# Altium integrated library Altium_WE-PPTI (rev24c) (1).IntLib: 69 symbols (part 1 of 2)
Pins are listed as number, name and electrical type; pins without a type are passive.

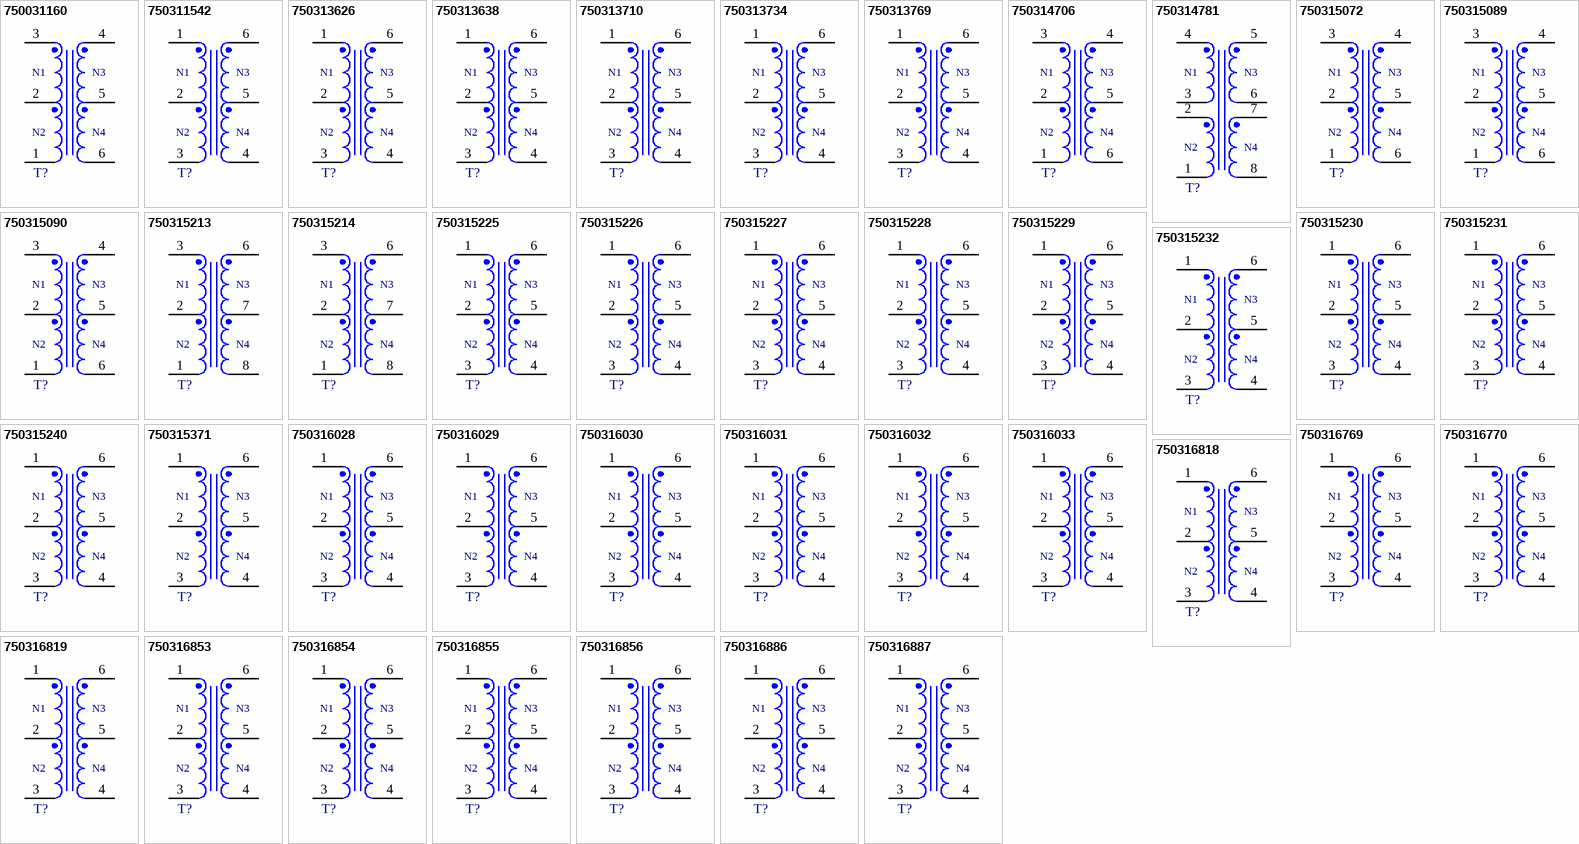
[diagram p0: symbols 750031160 to 750316887]

## 750031160
designator T?  (value not drawn)
WE-PPTI Push-Pull Transformer, SMT, size EE5, Ui = 5V, Uo = 12V / 0.35A; Manufacturer: Wurth Elektronik; Inductance: 500uH; Input Voltage: 5VDC; Insulation Test Voltage: 1000V (DC); Switching Frequency: 500kHz; Turns Ratio: 1:2.7; Voltage-Time: 9Vus; Manufacturer Part Number: 750031160; Category: Transformers For DC-DC Converter; Match Code: WE-PPTI; ComponentLink1Description: Website Link; ComponentLink1URL: https://www.we-online.com/redexpert/article/750031160?ad; ComponentLink2Description: Datasheet Link; ComponentLink2URL: https://www.we-online.com/redexpert/spec/750031160?ad; Mount: Surface Mount; Operating Temperature Max: 125°C; Operating Temperature Min: -40°C; Packaging: Tape and Reel; Case/Size Code: EE5; Length: 8.76mm; Width: 6.1mm; Height: 6.35mm; Output Current 1: 0.35A; Output Voltage 1: 12V
footprint WE-PPTI_EE5_L8.76W6.1H6.35
pins: 1, 2, 3, 4, 5, 6
text: N1; N3; N2; N4

## 750311542
designator T?  (value not drawn)
WE-PPTI Push-Pull Transformer, SMT, size EP5, Ui = 5V, Uo = 12V / 0.45A; Manufacturer: Wurth Elektronik; Inductance: 500uH; Input Voltage: 5VDC; Insulation Test Voltage: 1000V (DC); Switching Frequency: 500kHz; Turns Ratio: 1:2.73; Voltage-Time: 9Vus; Manufacturer Part Number: 750311542; Category: Transformers For DC-DC Converter; Match Code: WE-PPTI; ComponentLink1Description: Website Link; ComponentLink1URL: https://www.we-online.com/redexpert/article/750311542?ad; ComponentLink2Description: Datasheet Link; ComponentLink2URL: https://www.we-online.com/redexpert/spec/750311542?ad; Mount: Surface Mount; Operating Temperature Max: 125°C; Operating Temperature Min: -40°C; Packaging: Tape and Reel; Case/Size Code: EP5; Length: 8.26mm; Width: 6.6mm; Height: 5.59mm; Output Current 1: 0.45A; Output Voltage 1: 12V
footprint WE-PPTI_EP5_L8.26W6.6H5.59
pins: 1, 2, 3, 4, 5, 6
text: N1; N3; N2; N4

## 750313626
designator T?  (value not drawn)
WE-PPTI Push-Pull Transformer, SMT, size 1209, Ui = 3.3V, Uo = 5V / 0.5A; Manufacturer: Wurth Elektronik; Case/Size Code: 1209; Inductance: 340uH; Input Voltage: 3.3VDC; Insulation Test Voltage: 5000V (RMS); Switching Frequency: 250 - 550kHz; Turns Ratio: 1:2; Type of Insulation: Reinforced; Voltage-Time: 10Vus; Manufacturer Part Number: 750313626; Category: Transformers For DC-DC Converter; Match Code: WE-PPTI; ComponentLink1Description: Website Link; ComponentLink1URL: https://www.we-online.com/redexpert/article/750313626?ad; ComponentLink2Description: Datasheet Link; ComponentLink2URL: https://www.we-online.com/redexpert/spec/750313626?ad; Mount: Surface Mount; Operating Temperature Max: 125°C; Operating Temperature Min: -40°C; Packaging: Tape and Reel; Length: 12.7mm; Width: 9.14mm; Height: 7.62mm; Output Current 1: 0.5A; Output Voltage 1: 5V
footprint WE-PPTI_1209_L12.7W9.14H7.62
pins: 1, 2, 3, 4, 5, 6
text: N1; N3; N2; N4

## 750313638
designator T?  (value not drawn)
WE-PPTI Push-Pull Transformer, SMT, size 1209, Ui = 5V, Uo = 5V / 0.65A; Manufacturer: Wurth Elektronik; Case/Size Code: 1209; Inductance: 340uH; Input Voltage: 5VDC; Insulation Test Voltage: 5000V (RMS); Switching Frequency: 300 - 620kHz; Turns Ratio: 1:1.3; Type of Insulation: Reinforced; Voltage-Time: 10Vus; Manufacturer Part Number: 750313638; Category: Transformers For DC-DC Converter; Match Code: WE-PPTI; ComponentLink1Description: Website Link; ComponentLink1URL: https://www.we-online.com/redexpert/article/750313638?ad; ComponentLink2Description: Datasheet Link; ComponentLink2URL: https://www.we-online.com/redexpert/spec/750313638?ad; Mount: Surface Mount; Operating Temperature Max: 125°C; Operating Temperature Min: -40°C; Packaging: Tape and Reel; Length: 12.7mm; Width: 9.14mm; Height: 7.62mm; Output Current 1: 0.65A; Output Voltage 1: 5V
footprint WE-PPTI_1209_L12.7W9.14H7.62
pins: 1, 2, 3, 4, 5, 6
text: N1; N3; N2; N4

## 750313710
designator T?  (value not drawn)
WE-PPTI Push-Pull Transformer, SMT, size 1006, Ui = 5V, Uo = 3.3V / 0.65A; Manufacturer: Wurth Elektronik; Case/Size Code: 1006; Inductance: 475uH; Input Voltage: 5VDC; Insulation Test Voltage: 2500V (AC); Switching Frequency: 250 - 620kHz; Turns Ratio: 1:1.23; Type of Insulation: Functional; Voltage-Time: 11Vus; Manufacturer Part Number: 750313710; Category: Transformers For DC-DC Converter; Match Code: WE-PPTI; ComponentLink1Description: Website Link; ComponentLink1URL: https://www.we-online.com/redexpert/article/750313710?ad; ComponentLink2Description: Datasheet Link; ComponentLink2URL: https://www.we-online.com/redexpert/spec/750313710?ad; Mount: Surface Mount; Operating Temperature Max: 125°C; Operating Temperature Min: -40°C; Packaging: Tape and Reel; Length: 10.2mm; Width: 6.73mm; Height: 4.19mm; Output Current 1: 0.65A; Output Voltage 1: 3.3V
footprint WE-PPTI_1006_L10.2W6.73H4.19
pins: 1, 2, 3, 4, 5, 6
text: N1; N3; N2; N4

## 750313734
designator T?  (value not drawn)
WE-PPTI Push-Pull Transformer, SMT, size 1209, Ui = 5V, Uo = 5V / 0.8A; Manufacturer: Wurth Elektronik; Case/Size Code: 1209; Inductance: 340uH; Input Voltage: 5VDC; Insulation Test Voltage: 5000V (RMS); Switching Frequency: 300 - 620kHz; Turns Ratio: 1:1.1; Type of Insulation: Reinforced; Voltage-Time: 10Vus; Manufacturer Part Number: 750313734; Category: Transformers For DC-DC Converter; Match Code: WE-PPTI; ComponentLink1Description: Website Link; ComponentLink1URL: https://www.we-online.com/redexpert/article/750313734?ad; ComponentLink2Description: Datasheet Link; ComponentLink2URL: https://www.we-online.com/redexpert/spec/750313734?ad; Mount: Surface Mount; Operating Temperature Max: 125°C; Operating Temperature Min: -40°C; Packaging: Tape and Reel; Length: 12.7mm; Width: 9.14mm; Height: 7.62mm; Output Current 1: 0.8A; Output Voltage 1: 5V
footprint WE-PPTI_1209_L12.7W9.14H7.62
pins: 1, 2, 3, 4, 5, 6
text: N1; N3; N2; N4

## 750313769
designator T?  (value not drawn)
WE-PPTI Push-Pull Transformer, SMT, size 1209, Ui = 3.3V, Uo = 5V / 0.6A; Manufacturer: Wurth Elektronik; Case/Size Code: 1209; Inductance: 340uH; Input Voltage: 3.3VDC; Insulation Test Voltage: 5000V (RMS); Switching Frequency: 250 - 550kHz; Turns Ratio: 1:1.7; Type of Insulation: Reinforced; Voltage-Time: 10Vus; Manufacturer Part Number: 750313769; Category: Transformers For DC-DC Converter; Match Code: WE-PPTI; ComponentLink1Description: Website Link; ComponentLink1URL: https://www.we-online.com/redexpert/article/750313769?ad; ComponentLink2Description: Datasheet Link; ComponentLink2URL: https://www.we-online.com/redexpert/spec/750313769?ad; Mount: Surface Mount; Operating Temperature Max: 125°C; Operating Temperature Min: -40°C; Packaging: Tape and Reel; Length: 12.7mm; Width: 9.14mm; Height: 7.62mm; Output Current 1: 0.6A; Output Voltage 1: 5V
footprint WE-PPTI_1209_L12.7W9.14H7.62
pins: 1, 2, 3, 4, 5, 6
text: N1; N3; N2; N4

## 750314706
designator T?  (value not drawn)
WE-PPTI Push-Pull Transformer, SMT, size EP5, Ui = 3 - 5.5V, Uo = 5.4 - 9.9V / 0.3A; Manufacturer: Wurth Elektronik; Inductance: 250uH; Input Voltage: 3 - 5.5VDC; Insulation Test Voltage: 2500V (AC); Switching Frequency: 100 - 500kHz; Turns Ratio: 1:1.8; Voltage-Time: 27Vus; Manufacturer Part Number: 750314706; Category: Transformers For DC-DC Converter; Match Code: WE-PPTI; ComponentLink1Description: Website Link; ComponentLink1URL: https://www.we-online.com/redexpert/article/750314706?ad; ComponentLink2Description: Datasheet Link; ComponentLink2URL: https://www.we-online.com/redexpert/spec/750314706?ad; Mount: Surface Mount; Operating Temperature Max: 125°C; Operating Temperature Min: -40°C; Packaging: Tape and Reel; Case/Size Code: EP5; Length: 9.1mm; Width: 7mm; Height: 7.8mm; Output Current 1: 0.3A; Output Voltage 1: 5.4 - 9.9V
footprint WE-PPTI_EP5_L9.1W7H7.8
pins: 1, 2, 3, 4, 5, 6
text: N1; N3; N2; N4

## 750314781
designator T?  (value not drawn)
WE-PPTI Push-Pull Transformer, SMT, size EP7, Ui = 10 - 15V, Uo1 = 12V / 0.5A, Uo2 = 12V / 0.5A; Manufacturer: Wurth Elektronik; Inductance: 160uH; Input Voltage: 10 - 15VDC; Insulation Test Voltage: 1000V (AC); Switching Frequency: 1000kHz; Turns Ratio: 1:2; Voltage-Time: 68Vus; Manufacturer Part Number: 750314781; Category: Transformers For DC-DC Converter; Match Code: WE-PPTI; ComponentLink1Description: Website Link; ComponentLink1URL: https://www.we-online.com/redexpert/article/750314781?ad; ComponentLink2Description: Datasheet Link; ComponentLink2URL: https://www.we-online.com/redexpert/spec/750314781?ad; Mount: Surface Mount; Operating Temperature Max: 125°C; Operating Temperature Min: -40°C; Packaging: Tape and Reel; Case/Size Code: EP7; Length: 9.14mm; Width: 9.78mm; Height: 10.54mm; Output Current 1: 0.5A; Output Current 2: 0.5A; Output Voltage 1: 12V; Output Voltage 2: 12V
footprint WE-PPTI_EP7_L9.14W9.78H10.54
pins: 1, 2, 3, 4, 5, 6, 7, 8
text: N1; N3; N2; N4

## 750315072
designator T?  (value not drawn)
WE-PPTI Push-Pull Transformer, SMT, size EP5, Ui = 3 - 5.5V, Uo = 2 - 3.6V / 0.6A; Manufacturer: Wurth Elektronik; Inductance: 635uH; Input Voltage: 3 - 5.5VDC; Insulation Test Voltage: 2500V (AC); Output Voltage 1: 2 - 3.6V; Switching Frequency: 100 - 500kHz; Turns Ratio: 1.53:1; Voltage-Time: 42Vus; Manufacturer Part Number: 750315072; Category: Transformers For DC-DC Converter; Match Code: WE-PPTI; ComponentLink1Description: Website Link; ComponentLink1URL: https://www.we-online.com/redexpert/article/750315072?ad; ComponentLink2Description: Datasheet Link; ComponentLink2URL: https://www.we-online.com/redexpert/spec/750315072?ad; Mount: Surface Mount; Operating Temperature Max: 125°C; Operating Temperature Min: -40°C; Packaging: Tape and Reel; Case/Size Code: EP5; Length: 9.1mm; Width: 7mm; Height: 7.8mm; Output Current 1: 0.6A
footprint WE-PPTI_EP5_L9.1W7H7.8
pins: 1, 2, 3, 4, 5, 6
text: N1; N3; N2; N4

## 750315089
designator T?  (value not drawn)
WE-PPTI Push-Pull Transformer, SMT, size EP5, Ui = 3 - 5.5V, Uo = 3 - 5.5V / 0.33A; Manufacturer: Wurth Elektronik; Inductance: 635uH; Input Voltage: 3 - 5.5VDC; Insulation Test Voltage: 2500V (AC); Output Voltage 1: 3 - 5.5V; Switching Frequency: 100 - 500kHz; Turns Ratio: 1:1; Voltage-Time: 42Vus; Manufacturer Part Number: 750315089; Category: Transformers For DC-DC Converter; Match Code: WE-PPTI; ComponentLink1Description: Website Link; ComponentLink1URL: https://www.we-online.com/redexpert/article/750315089?ad; ComponentLink2Description: Datasheet Link; ComponentLink2URL: https://www.we-online.com/redexpert/spec/750315089?ad; Mount: Surface Mount; Operating Temperature Max: 125°C; Operating Temperature Min: -40°C; Packaging: Tape and Reel; Case/Size Code: EP5; Length: 9.1mm; Width: 7mm; Height: 7.8mm; Output Current 1: 0.33A
footprint WE-PPTI_EP5_L9.1W7H7.8
pins: 1, 2, 3, 4, 5, 6
text: N1; N3; N2; N4

## 750315090
designator T?  (value not drawn)
WE-PPTI Push-Pull Transformer, SMT, size EP5, Ui = 3 - 5.5V, Uo = 3 - 5.5V / 0.6A; Manufacturer: Wurth Elektronik; Inductance: 270uH; Input Voltage: 3 - 5.5VDC; Insulation Test Voltage: 2500V (AC); Output Voltage 1: 3 - 5.5V; Switching Frequency: 100 - 500kHz; Turns Ratio: 1:1; Voltage-Time: 27Vus; Manufacturer Part Number: 750315090; Category: Transformers For DC-DC Converter; Match Code: WE-PPTI; ComponentLink1Description: Website Link; ComponentLink1URL: https://www.we-online.com/redexpert/article/750315090?ad; ComponentLink2Description: Datasheet Link; ComponentLink2URL: https://www.we-online.com/redexpert/spec/750315090?ad; Mount: Surface Mount; Operating Temperature Max: 125°C; Operating Temperature Min: -40°C; Packaging: Tape and Reel; Case/Size Code: EP5; Length: 9.1mm; Width: 7mm; Height: 7.8mm; Output Current 1: 0.6A
footprint WE-PPTI_EP5_L9.1W7H7.8
pins: 1, 2, 3, 4, 5, 6
text: N1; N3; N2; N4

## 750315213
designator T?  (value not drawn)
WE-PPTI Push-Pull Transformer, SMT, size EP7, Ui = 8 - 36V, Uo = 8 - 36V / 0.6A; Manufacturer: Wurth Elektronik; Inductance: 563uH; Input Voltage: 8 - 36VDC; Insulation Test Voltage: 3125 (AC); Output Voltage 1: 8 - 36V; Switching Frequency: 150 - 500kHz; Turns Ratio: 1:1; Voltage-Time: 100Vus; Manufacturer Part Number: 750315213; Category: Transformers For DC-DC Converter; Match Code: WE-PPTI; ComponentLink1Description: Website Link; ComponentLink1URL: https://www.we-online.com/redexpert/article/750315213?ad; ComponentLink2Description: Datasheet Link; ComponentLink2URL: https://www.we-online.com/redexpert/spec/750315213?ad; Mount: Surface Mount; Operating Temperature Max: 125°C; Operating Temperature Min: -40°C; Packaging: Tape and Reel; Case/Size Code: EP7; Length: 9.14mm; Width: 9.78mm; Height: 10.54mm; Output Current 1: 0.6A
footprint WE-PPTI_EP7_L9.14W9.78H10.54
pins: 1, 2, 3, 6, 7, 8
text: N1; N3; N2; N4

## 750315214
designator T?  (value not drawn)
WE-PPTI Push-Pull Transformer, SMT, size EP7, Ui = 8 - 36V, Uo = 2 - 9V / 2A; Manufacturer: Wurth Elektronik; Inductance: 563uH; Input Voltage: 8 - 36VDC; Insulation Test Voltage: 3125 (AC); Output Voltage 1: 2 - 9V; Switching Frequency: 150 - 500kHz; Turns Ratio: 4:1; Voltage-Time: 100Vus; Manufacturer Part Number: 750315214; Category: Transformers For DC-DC Converter; Match Code: WE-PPTI; ComponentLink1Description: Website Link; ComponentLink1URL: https://www.we-online.com/redexpert/article/750315214?ad; ComponentLink2Description: Datasheet Link; ComponentLink2URL: https://www.we-online.com/redexpert/spec/750315214?ad; Mount: Surface Mount; Operating Temperature Max: 125°C; Operating Temperature Min: -40°C; Packaging: Tape and Reel; Case/Size Code: EP7; Length: 9.14mm; Width: 9.78mm; Height: 10.54mm; Output Current 1: 2A
footprint WE-PPTI_EP7_L9.14W9.78H10.54
pins: 1, 2, 3, 6, 7, 8
text: N1; N3; N2; N4

## 750315225
designator T?  (value not drawn)
WE-PPTI Push-Pull Transformer, SMT, size 1006, Ui = 3.3V, Uo = 3.63V / 0.9A; Manufacturer: Wurth Elektronik; Case/Size Code: 1006; Inductance: 388uH; Input Voltage: 3.3VDC; Insulation Test Voltage: 2750V (AC); Switching Frequency: 350 - 550kHz; Turns Ratio: 1:1.1; Voltage-Time: 8.5Vus; Manufacturer Part Number: 750315225; Category: Transformers For DC-DC Converter; Match Code: WE-PPTI; ComponentLink1Description: Website Link; ComponentLink1URL: https://www.we-online.com/redexpert/article/750315225?ad; ComponentLink2Description: Datasheet Link; ComponentLink2URL: https://www.we-online.com/redexpert/spec/750315225?ad; Mount: Surface Mount; Operating Temperature Max: 125°C; Operating Temperature Min: -40°C; Packaging: Tape and Reel; Length: 10.2mm; Width: 6.73mm; Height: 4.19mm; Output Current 1: 0.9A; Output Voltage 1: 3.63V
footprint WE-PPTI_1006_L10.2W6.73H4.19
pins: 1, 2, 3, 4, 5, 6
text: N1; N3; N2; N4

## 750315226
designator T?  (value not drawn)
WE-PPTI Push-Pull Transformer, SMT, size 1006, Ui = 3.3V, Uo = 4.29V / 0.85A; Manufacturer: Wurth Elektronik; Case/Size Code: 1006; Inductance: 388uH; Input Voltage: 3.3VDC; Insulation Test Voltage: 2750V (AC); Switching Frequency: 350 - 550kHz; Turns Ratio: 1:1.3; Voltage-Time: 8.5Vus; Manufacturer Part Number: 750315226; Category: Transformers For DC-DC Converter; Match Code: WE-PPTI; ComponentLink1Description: Website Link; ComponentLink1URL: https://www.we-online.com/redexpert/article/750315226?ad; ComponentLink2Description: Datasheet Link; ComponentLink2URL: https://www.we-online.com/redexpert/spec/750315226?ad; Mount: Surface Mount; Operating Temperature Max: 125°C; Operating Temperature Min: -40°C; Packaging: Tape and Reel; Length: 10.2mm; Width: 6.73mm; Height: 4.19mm; Output Current 1: 0.85A; Output Voltage 1: 4.29V
footprint WE-PPTI_1006_L10.2W6.73H4.19
pins: 1, 2, 3, 4, 5, 6
text: N1; N3; N2; N4

## 750315227
designator T?  (value not drawn)
WE-PPTI Push-Pull Transformer, SMT, size 1006, Ui = 3.3V, Uo = 5.61V / 0.7A; Manufacturer: Wurth Elektronik; Case/Size Code: 1006; Inductance: 388uH; Input Voltage: 3.3VDC; Insulation Test Voltage: 2750V (AC); Switching Frequency: 350 - 550kHz; Turns Ratio: 1:1.7; Voltage-Time: 8.5Vus; Manufacturer Part Number: 750315227; Category: Transformers For DC-DC Converter; Match Code: WE-PPTI; ComponentLink1Description: Website Link; ComponentLink1URL: https://www.we-online.com/redexpert/article/750315227?ad; ComponentLink2Description: Datasheet Link; ComponentLink2URL: https://www.we-online.com/redexpert/spec/750315227?ad; Mount: Surface Mount; Operating Temperature Max: 125°C; Operating Temperature Min: -40°C; Packaging: Tape and Reel; Length: 10.2mm; Width: 6.73mm; Height: 4.19mm; Output Current 1: 0.7A; Output Voltage 1: 5.61V
footprint WE-PPTI_1006_L10.2W6.73H4.19
pins: 1, 2, 3, 4, 5, 6
text: N1; N3; N2; N4

## 750315228
designator T?  (value not drawn)
WE-PPTI Push-Pull Transformer, SMT, size 1006, Ui = 3.3V, Uo = 6.6V / 0.5A; Manufacturer: Wurth Elektronik; Case/Size Code: 1006; Inductance: 388uH; Input Voltage: 3.3VDC; Insulation Test Voltage: 2750V (AC); Switching Frequency: 350 - 550kHz; Turns Ratio: 1:2; Voltage-Time: 8.5Vus; Manufacturer Part Number: 750315228; Category: Transformers For DC-DC Converter; Match Code: WE-PPTI; ComponentLink1Description: Website Link; ComponentLink1URL: https://www.we-online.com/redexpert/article/750315228?ad; ComponentLink2Description: Datasheet Link; ComponentLink2URL: https://www.we-online.com/redexpert/spec/750315228?ad; Mount: Surface Mount; Operating Temperature Max: 125°C; Operating Temperature Min: -40°C; Packaging: Tape and Reel; Length: 10.2mm; Width: 6.73mm; Height: 4.19mm; Output Current 1: 0.5A; Output Voltage 1: 6.6V
footprint WE-PPTI_1006_L10.2W6.73H4.19
pins: 1, 2, 3, 4, 5, 6
text: N1; N3; N2; N4

## 750315229
designator T?  (value not drawn)
WE-PPTI Push-Pull Transformer, SMT, size 1209, Ui = 5V, Uo = 5V / 0.9A; Manufacturer: Wurth Elektronik; Case/Size Code: 1209; Inductance: 384uH; Input Voltage: 5VDC; Insulation Test Voltage: 5000V (RMS); Switching Frequency: 350 - 550kHz; Turns Ratio: 1:1.1; Voltage-Time: 8.8Vus; Manufacturer Part Number: 750315229; Category: Transformers For DC-DC Converter; Match Code: WE-PPTI; ComponentLink1Description: Website Link; ComponentLink1URL: https://www.we-online.com/redexpert/article/750315229?ad; ComponentLink2Description: Datasheet Link; ComponentLink2URL: https://www.we-online.com/redexpert/spec/750315229?ad; Mount: Surface Mount; Operating Temperature Max: 125°C; Operating Temperature Min: -40°C; Packaging: Tape and Reel; Length: 12.7mm; Width: 9.14mm; Height: 7.62mm; Output Current 1: 0.9A; Output Voltage 1: 5V
footprint WE-PPTI_1209_L12.7W9.14H7.62
pins: 1, 2, 3, 4, 5, 6
text: N1; N3; N2; N4

## 750315230
designator T?  (value not drawn)
WE-PPTI Push-Pull Transformer, SMT, size 1209, Ui = 5V, Uo = 5V / 0.75A; Manufacturer: Wurth Elektronik; Case/Size Code: 1209; Inductance: 384uH; Input Voltage: 5VDC; Insulation Test Voltage: 5000V (RMS); Switching Frequency: 350 - 550kHz; Turns Ratio: 1:1.4; Voltage-Time: 8.8Vus; Manufacturer Part Number: 750315230; Category: Transformers For DC-DC Converter; Match Code: WE-PPTI; ComponentLink1Description: Website Link; ComponentLink1URL: https://www.we-online.com/redexpert/article/750315230?ad; ComponentLink2Description: Datasheet Link; ComponentLink2URL: https://www.we-online.com/redexpert/spec/750315230?ad; Mount: Surface Mount; Operating Temperature Max: 125°C; Operating Temperature Min: -40°C; Packaging: Tape and Reel; Length: 12.7mm; Width: 9.14mm; Height: 7.62mm; Output Current 1: 0.75A; Output Voltage 1: 5V
footprint WE-PPTI_1209_L12.7W9.14H7.62
pins: 1, 2, 3, 4, 5, 6
text: N1; N3; N2; N4

## 750315231
designator T?  (value not drawn)
WE-PPTI Push-Pull Transformer, SMT, size 1209, Ui = 3.3V, Uo = 5V / 0.55A; Manufacturer: Wurth Elektronik; Case/Size Code: 1209; Inductance: 384uH; Input Voltage: 3.3VDC; Insulation Test Voltage: 5000V (RMS); Switching Frequency: 350 - 550kHz; Turns Ratio: 1:1.6; Voltage-Time: 8.8Vus; Manufacturer Part Number: 750315231; Category: Transformers For DC-DC Converter; Match Code: WE-PPTI; ComponentLink1Description: Website Link; ComponentLink1URL: https://www.we-online.com/redexpert/article/750315231?ad; ComponentLink2Description: Datasheet Link; ComponentLink2URL: https://www.we-online.com/redexpert/spec/750315231?ad; Mount: Surface Mount; Operating Temperature Max: 125°C; Operating Temperature Min: -40°C; Packaging: Tape and Reel; Length: 12.7mm; Width: 9.14mm; Height: 7.62mm; Output Current 1: 0.55A; Output Voltage 1: 5V
footprint WE-PPTI_1209_L12.7W9.14H7.62
pins: 1, 2, 3, 4, 5, 6
text: N1; N3; N2; N4

## 750315232
designator T?  (value not drawn)
WE-PPTI Push-Pull Transformer, SMT, size 1209, Ui = 3.3V, Uo = 5V / 0.45A; Manufacturer: Wurth Elektronik; Case/Size Code: 1209; Inductance: 384uH; Input Voltage: 3.3VDC; Insulation Test Voltage: 5000V (RMS); Switching Frequency: 350 - 550kHz; Turns Ratio: 1:2; Voltage-Time: 8.8Vus; Manufacturer Part Number: 750315232; Category: Transformers For DC-DC Converter; Match Code: WE-PPTI; ComponentLink1Description: Website Link; ComponentLink1URL: https://www.we-online.com/redexpert/article/750315232?ad; ComponentLink2Description: Datasheet Link; ComponentLink2URL: https://www.we-online.com/redexpert/spec/750315232?ad; Mount: Surface Mount; Operating Temperature Max: 125°C; Operating Temperature Min: -40°C; Packaging: Tape and Reel; Length: 12.7mm; Width: 9.14mm; Height: 7.62mm; Output Current 1: 0.45A; Output Voltage 1: 5V
footprint WE-PPTI_1209_L12.7W9.14H7.62
pins: 1, 2, 3, 4, 5, 6
text: N1; N3; N2; N4

## 750315240
designator T?  (value not drawn)
WE-PPTI Push-Pull Transformer, SMT, size 1512, Ui = 5V, Uo = 5V / 1A; Manufacturer: Wurth Elektronik; Case/Size Code: 1512; Inductance: 440uH; Input Voltage: 5VDC; Insulation Test Voltage: 5000V (RMS); Switching Frequency: 150kHz; Turns Ratio: 1:1.1; Type of Insulation: Reinforced; Voltage-Time: 46Vus; Manufacturer Part Number: 750315240; Category: Transformers For DC-DC Converter; Match Code: WE-PPTI; ComponentLink1Description: Website Link; ComponentLink1URL: https://www.we-online.com/redexpert/article/750315240?ad; ComponentLink2Description: Datasheet Link; ComponentLink2URL: https://www.we-online.com/redexpert/spec/750315240?ad; Mount: Surface Mount; Operating Temperature Max: 125°C; Operating Temperature Min: -40°C; Packaging: Tape and Reel; Length: 15.41mm; Width: 12.32mm; Height: 11.89mm; Output Current 1: 1A; Output Voltage 1: 5V
footprint WE-PPTI_1512_L15.41W12.32H11.89
pins: 1, 2, 3, 4, 5, 6
text: N1; N3; N2; N4

## 750315371
designator T?  (value not drawn)
WE-PPTI Push-Pull Transformer, SMT, size 1208, Ui = 4.5 - 5.5V, Uo = 5V / 1A; Manufacturer: Wurth Elektronik; Case/Size Code: 1208; Inductance: 72uH; Input Voltage: 4.5 - 5.5VDC; Insulation Test Voltage: 2500V (AC); Switching Frequency: 400kHz; Turns Ratio: 1:1.1; Type of Insulation: Functional; Voltage-Time: 8.6Vus; Manufacturer Part Number: 750315371; Category: Transformers For DC-DC Converter; Match Code: WE-PPTI; ComponentLink1Description: Website Link; ComponentLink1URL: https://www.we-online.com/redexpert/article/750315371?ad; ComponentLink2Description: Datasheet Link; ComponentLink2URL: https://www.we-online.com/redexpert/spec/750315371?ad; Mount: Surface Mount; Operating Temperature Max: 125°C; Operating Temperature Min: -40°C; Packaging: Tape and Reel; Length: 12.6mm; Width: 8.3mm; Height: 4.1mm; Output Current 1: 1A; Output Voltage 1: 5V
footprint WE-PPTI_1208_L12.6W8.3H4.1
pins: 1, 2, 3, 4, 5, 6
text: N1; N3; N2; N4

## 750316028
designator T?  (value not drawn)
WE-PPTI Push-Pull Transformer, SMT, size 1208, Ui = 3.3V, Uo = 3.3V / 0.8A; Manufacturer: Wurth Elektronik; Case/Size Code: 1208; Inductance: 72uH; Input Voltage: 3.3VDC; Insulation Test Voltage: 2500V (AC); Switching Frequency: 400kHz; Turns Ratio: 1:1.7; Type of Insulation: Functional; Voltage-Time: 8.9Vus; Manufacturer Part Number: 750316028; Category: Transformers For DC-DC Converter; Match Code: WE-PPTI; ComponentLink1Description: Website Link; ComponentLink1URL: https://www.we-online.com/redexpert/article/750316028?ad; ComponentLink2Description: Datasheet Link; ComponentLink2URL: https://www.we-online.com/redexpert/spec/750316028?ad; Mount: Surface Mount; Operating Temperature Max: 125°C; Operating Temperature Min: -40°C; Packaging: Tape and Reel; Length: 12.6mm; Width: 8.3mm; Height: 4.1mm; Output Current 1: 0.8A; Output Voltage 1: 3.3V
footprint WE-PPTI_1208_L12.6W8.3H4.1
pins: 1, 2, 3, 4, 5, 6
text: N1; N3; N2; N4

## 750316029
designator T?  (value not drawn)
WE-PPTI Push-Pull Transformer, SMT, size 1208, Ui = 3.3V, Uo = 5V / 0.6A; Manufacturer: Wurth Elektronik; Case/Size Code: 1208; Inductance: 72uH; Input Voltage: 3.3VDC; Insulation Test Voltage: 2500V (AC); Switching Frequency: 400kHz; Turns Ratio: 1:2.1; Type of Insulation: Functional; Voltage-Time: 8.9Vus; Manufacturer Part Number: 750316029; Category: Transformers For DC-DC Converter; Match Code: WE-PPTI; ComponentLink1Description: Website Link; ComponentLink1URL: https://www.we-online.com/redexpert/article/750316029?ad; ComponentLink2Description: Datasheet Link; ComponentLink2URL: https://www.we-online.com/redexpert/spec/750316029?ad; Mount: Surface Mount; Operating Temperature Max: 125°C; Operating Temperature Min: -40°C; Packaging: Tape and Reel; Length: 12.6mm; Width: 8.3mm; Height: 4.1mm; Output Current 1: 0.6A; Output Voltage 1: 5V
footprint WE-PPTI_1208_L12.6W8.3H4.1
pins: 1, 2, 3, 4, 5, 6
text: N1; N3; N2; N4

## 750316030
designator T?  (value not drawn)
WE-PPTI Push-Pull Transformer, SMT, size 1208, Ui = 4.5 - 5.5V, Uo = 3.3V / 1.2A; Manufacturer: Wurth Elektronik; Case/Size Code: 1208; Inductance: 94uH; Input Voltage: 4.5 - 5.5VDC; Insulation Test Voltage: 2500V (AC); Switching Frequency: 400kHz; Turns Ratio: 1.3:1; Type of Insulation: Functional; Voltage-Time: 10.2Vus; Manufacturer Part Number: 750316030; Category: Transformers For DC-DC Converter; Match Code: WE-PPTI; ComponentLink1Description: Website Link; ComponentLink1URL: https://www.we-online.com/redexpert/article/750316030?ad; ComponentLink2Description: Datasheet Link; ComponentLink2URL: https://www.we-online.com/redexpert/spec/750316030?ad; Mount: Surface Mount; Operating Temperature Max: 125°C; Operating Temperature Min: -40°C; Packaging: Tape and Reel; Length: 12.6mm; Width: 8.3mm; Height: 4.1mm; Output Current 1: 1.2A; Output Voltage 1: 3.3V
footprint WE-PPTI_1208_L12.6W8.3H4.1
pins: 1, 2, 3, 4, 5, 6
text: N1; N3; N2; N4

## 750316031
designator T?  (value not drawn)
WE-PPTI Push-Pull Transformer, SMT, size 1512, Ui = 3.3V, Uo = 3.3V / 0.9A; Manufacturer: Wurth Elektronik; Case/Size Code: 1512; Inductance: 370uH; Input Voltage: 3.3VDC; Insulation Test Voltage: 5000V (RMS); Switching Frequency: 150kHz; Turns Ratio: 1:1.75; Type of Insulation: Reinforced; Voltage-Time: 40Vus; Manufacturer Part Number: 750316031; Category: Transformers For DC-DC Converter; Match Code: WE-PPTI; ComponentLink1Description: Website Link; ComponentLink1URL: https://www.we-online.com/redexpert/article/750316031?ad; ComponentLink2Description: Datasheet Link; ComponentLink2URL: https://www.we-online.com/redexpert/spec/750316031?ad; Mount: Surface Mount; Operating Temperature Max: 125°C; Operating Temperature Min: -40°C; Packaging: Tape and Reel; Length: 15.41mm; Width: 12.32mm; Height: 11.89mm; Output Current 1: 0.9A; Output Voltage 1: 3.3V
footprint WE-PPTI_1512_L15.41W12.32H11.89
pins: 1, 2, 3, 4, 5, 6
text: N1; N3; N2; N4

## 750316032
designator T?  (value not drawn)
WE-PPTI Push-Pull Transformer, SMT, size 1512, Ui = 3.3V, Uo = 5V / 0.9A; Manufacturer: Wurth Elektronik; Case/Size Code: 1512; Inductance: 370uH; Input Voltage: 3.3VDC; Insulation Test Voltage: 5000V (RMS); Switching Frequency: 150kHz; Turns Ratio: 1:2; Type of Insulation: Reinforced; Voltage-Time: 40Vus; Manufacturer Part Number: 750316032; Category: Transformers For DC-DC Converter; Match Code: WE-PPTI; ComponentLink1Description: Website Link; ComponentLink1URL: https://www.we-online.com/redexpert/article/750316032?ad; ComponentLink2Description: Datasheet Link; ComponentLink2URL: https://www.we-online.com/redexpert/spec/750316032?ad; Mount: Surface Mount; Operating Temperature Max: 125°C; Operating Temperature Min: -40°C; Packaging: Tape and Reel; Length: 15.41mm; Width: 12.32mm; Height: 11.89mm; Output Current 1: 0.9A; Output Voltage 1: 5V
footprint WE-PPTI_1512_L15.41W12.32H11.89
pins: 1, 2, 3, 4, 5, 6
text: N1; N3; N2; N4

## 750316033
designator T?  (value not drawn)
WE-PPTI Push-Pull Transformer, SMT, size 1512, Ui = 4.5 - 5.5V, Uo = 3.3V / 1A; Manufacturer: Wurth Elektronik; Case/Size Code: 1512; Inductance: 370uH; Input Voltage: 4.5 - 5.5VDC; Insulation Test Voltage: 5000V (RMS); Switching Frequency: 150kHz; Turns Ratio: 1.3:1; Type of Insulation: Reinforced; Voltage-Time: 40Vus; Manufacturer Part Number: 750316033; Category: Transformers For DC-DC Converter; Match Code: WE-PPTI; ComponentLink1Description: Website Link; ComponentLink1URL: https://www.we-online.com/redexpert/article/750316033?ad; ComponentLink2Description: Datasheet Link; ComponentLink2URL: https://www.we-online.com/redexpert/spec/750316033?ad; Mount: Surface Mount; Operating Temperature Max: 125°C; Operating Temperature Min: -40°C; Packaging: Tape and Reel; Length: 15.41mm; Width: 12.32mm; Height: 11.89mm; Output Current 1: 1A; Output Voltage 1: 3.3V
footprint WE-PPTI_1512_L15.41W12.32H11.89
pins: 1, 2, 3, 4, 5, 6
text: N1; N3; N2; N4

## 750316769
designator T?  (value not drawn)
WE-PPTI Push-Pull Transformer, SMT, size 1006, Ui = 5V, Uo = 15V / 0.25A; Manufacturer: Wurth Elektronik; Case/Size Code: 1006; Inductance: 350uH; Input Voltage: 5VDC; Insulation Test Voltage: 2500V (AC); Switching Frequency: 300 - 620kHz; Turns Ratio: 1:3.45; Type of Insulation: Functional; Voltage-Time: 9Vus; Manufacturer Part Number: 750316769; Category: Transformers For DC-DC Converter; Match Code: WE-PPTI; ComponentLink1Description: Website Link; ComponentLink1URL: https://www.we-online.com/redexpert/article/750316769?ad; ComponentLink2Description: Datasheet Link; ComponentLink2URL: https://www.we-online.com/redexpert/spec/750316769?ad; Mount: Surface Mount; Operating Temperature Max: 125°C; Operating Temperature Min: -40°C; Packaging: Tape and Reel; Length: 10.2mm; Width: 6.73mm; Height: 4.19mm; Output Current 1: 0.25A; Output Voltage 1: 15V
footprint WE-PPTI_1006_L10.2W6.73H4.19
pins: 1, 2, 3, 4, 5, 6
text: N1; N3; N2; N4

## 750316770
designator T?  (value not drawn)
WE-PPTI Push-Pull Transformer, SMT, size 1006, Ui = 5V, Uo = 12V / 0.28A; Manufacturer: Wurth Elektronik; Case/Size Code: 1006; Inductance: 350uH; Input Voltage: 5VDC; Insulation Test Voltage: 2500V (AC); Switching Frequency: 300 - 620kHz; Turns Ratio: 1:2.91; Type of Insulation: Functional; Voltage-Time: 9Vus; Manufacturer Part Number: 750316770; Category: Transformers For DC-DC Converter; Match Code: WE-PPTI; ComponentLink1Description: Website Link; ComponentLink1URL: https://www.we-online.com/redexpert/article/750316770?ad; ComponentLink2Description: Datasheet Link; ComponentLink2URL: https://www.we-online.com/redexpert/spec/750316770?ad; Mount: Surface Mount; Operating Temperature Max: 125°C; Operating Temperature Min: -40°C; Packaging: Tape and Reel; Length: 10.2mm; Width: 6.73mm; Height: 4.19mm; Output Current 1: 0.28A; Output Voltage 1: 12V
footprint WE-PPTI_1006_L10.2W6.73H4.19
pins: 1, 2, 3, 4, 5, 6
text: N1; N3; N2; N4

## 750316818
designator T?  (value not drawn)
WE-PPTI Push-Pull Transformer, SMT, size 1208, Ui = 5V, Uo = 17V / 0.38A; Manufacturer: Wurth Elektronik; Case/Size Code: 1208; Inductance: 86uH; Input Voltage: 5VDC; Insulation Test Voltage: 2500V (AC); Switching Frequency: 400kHz; Turns Ratio: 1:3.5; Type of Insulation: Functional; Voltage-Time: 9Vus; Manufacturer Part Number: 750316818; Category: Transformers For DC-DC Converter; Match Code: WE-PPTI; ComponentLink1Description: Website Link; ComponentLink1URL: https://www.we-online.com/redexpert/article/750316818?ad; ComponentLink2Description: Datasheet Link; ComponentLink2URL: https://www.we-online.com/redexpert/spec/750316818?ad; Mount: Surface Mount; Operating Temperature Max: 125°C; Operating Temperature Min: -40°C; Packaging: Tape and Reel; Length: 12.6mm; Width: 8.3mm; Height: 4.1mm; Output Current 1: 0.38A; Output Voltage 1: 17V
footprint WE-PPTI_1208_L12.6W8.3H4.1
pins: 1, 2, 3, 4, 5, 6
text: N1; N3; N2; N4

## 750316819
designator T?  (value not drawn)
WE-PPTI Push-Pull Transformer, SMT, size 1208, Ui = 5V, Uo = 12V / 0.46A; Manufacturer: Wurth Elektronik; Case/Size Code: 1208; Inductance: 86uH; Input Voltage: 5VDC; Insulation Test Voltage: 2500V (AC); Switching Frequency: 400kHz; Turns Ratio: 1:2.88; Type of Insulation: Functional; Voltage-Time: 9Vus; Manufacturer Part Number: 750316819; Category: Transformers For DC-DC Converter; Match Code: WE-PPTI; ComponentLink1Description: Website Link; ComponentLink1URL: https://www.we-online.com/redexpert/article/750316819?ad; ComponentLink2Description: Datasheet Link; ComponentLink2URL: https://www.we-online.com/redexpert/spec/750316819?ad; Mount: Surface Mount; Operating Temperature Max: 125°C; Operating Temperature Min: -40°C; Packaging: Tape and Reel; Length: 12.6mm; Width: 8.3mm; Height: 4.1mm; Output Current 1: 0.46A; Output Voltage 1: 12V
footprint WE-PPTI_1208_L12.6W8.3H4.1
pins: 1, 2, 3, 4, 5, 6
text: N1; N3; N2; N4

## 750316853
designator T?  (value not drawn)
WE-PPTI Push-Pull Transformer, SMT, size 1408, Ui = 3.3V, Uo = 12V / 0.165A; Manufacturer: Wurth Elektronik; Case/Size Code: 1408; Inductance: 200uH; Input Voltage: 3.3VDC; Insulation Test Voltage: 2500V (AC); Switching Frequency: 200 - 600kHz; Turns Ratio: 1:4; Type of Insulation: Supplementary; Voltage-Time: 15Vus; Manufacturer Part Number: 750316853; Category: Transformers For DC-DC Converter; Match Code: WE-PPTI; ComponentLink1Description: Website Link; ComponentLink1URL: https://www.we-online.com/redexpert/article/750316853?ad; ComponentLink2Description: Datasheet Link; ComponentLink2URL: https://www.we-online.com/redexpert/spec/750316853?ad; Mount: Surface Mount; Operating Temperature Max: 125°C; Operating Temperature Min: -40°C; Packaging: Tape and Reel; Length: 14.75mm; Width: 8.3mm; Height: 4.2mm; Output Current 1: 0.165A; Output Voltage 1: 12V
footprint WE-PPTI_1408_L14.75W8.3H4.2
pins: 1, 2, 3, 4, 5, 6
text: N1; N3; N2; N4

## 750316854
designator T?  (value not drawn)
WE-PPTI Push-Pull Transformer, SMT, size 1408, Ui = 5V, Uo = 12V / 0.38A; Manufacturer: Wurth Elektronik; Case/Size Code: 1408; Inductance: 200uH; Input Voltage: 5VDC; Insulation Test Voltage: 2500V (AC); Switching Frequency: 200 - 600kHz; Turns Ratio: 1:2.5; Type of Insulation: Supplementary; Voltage-Time: 15Vus; Manufacturer Part Number: 750316854; Category: Transformers For DC-DC Converter; Match Code: WE-PPTI; ComponentLink1Description: Website Link; ComponentLink1URL: https://www.we-online.com/redexpert/article/750316854?ad; ComponentLink2Description: Datasheet Link; ComponentLink2URL: https://www.we-online.com/redexpert/spec/750316854?ad; Mount: Surface Mount; Operating Temperature Max: 125°C; Operating Temperature Min: -40°C; Packaging: Tape and Reel; Length: 14.75mm; Width: 8.3mm; Height: 4.2mm; Output Current 1: 0.38A; Output Voltage 1: 12V
footprint WE-PPTI_1408_L14.75W8.3H4.2
pins: 1, 2, 3, 4, 5, 6
text: N1; N3; N2; N4

## 750316855
designator T?  (value not drawn)
WE-PPTI Push-Pull Transformer, SMT, size 1408, Ui = 3.3V, Uo = 23V / 0.085A; Manufacturer: Wurth Elektronik; Case/Size Code: 1408; Inductance: 200uH; Input Voltage: 3.3VDC; Insulation Test Voltage: 2500V (AC); Switching Frequency: 200 - 600kHz; Turns Ratio: 1:7; Type of Insulation: Supplementary; Voltage-Time: 15Vus; Manufacturer Part Number: 750316855; Category: Transformers For DC-DC Converter; Match Code: WE-PPTI; ComponentLink1Description: Website Link; ComponentLink1URL: https://www.we-online.com/redexpert/article/750316855?ad; ComponentLink2Description: Datasheet Link; ComponentLink2URL: https://www.we-online.com/redexpert/spec/750316855?ad; Mount: Surface Mount; Operating Temperature Max: 125°C; Operating Temperature Min: -40°C; Packaging: Tape and Reel; Length: 14.75mm; Width: 8.3mm; Height: 4.2mm; Output Current 1: 0.085A; Output Voltage 1: 23V
footprint WE-PPTI_1408_L14.75W8.3H4.2
pins: 1, 2, 3, 4, 5, 6
text: N1; N3; N2; N4

## 750316856
designator T?  (value not drawn)
WE-PPTI Push-Pull Transformer, SMT, size 1408, Ui = 5V, Uo = 23V / 0.18A; Manufacturer: Wurth Elektronik; Case/Size Code: 1408; Inductance: 200uH; Input Voltage: 5VDC; Insulation Test Voltage: 2500V (AC); Switching Frequency: 200 - 600kHz; Turns Ratio: 1:4.67; Type of Insulation: Supplementary; Voltage-Time: 15Vus; Manufacturer Part Number: 750316856; Category: Transformers For DC-DC Converter; Match Code: WE-PPTI; ComponentLink1Description: Website Link; ComponentLink1URL: https://www.we-online.com/redexpert/article/750316856?ad; ComponentLink2Description: Datasheet Link; ComponentLink2URL: https://www.we-online.com/redexpert/spec/750316856?ad; Mount: Surface Mount; Operating Temperature Max: 125°C; Operating Temperature Min: -40°C; Packaging: Tape and Reel; Length: 14.75mm; Width: 8.3mm; Height: 4.2mm; Output Current 1: 0.18A; Output Voltage 1: 23V
footprint WE-PPTI_1408_L14.75W8.3H4.2
pins: 1, 2, 3, 4, 5, 6
text: N1; N3; N2; N4

## 750316886
designator T?  (value not drawn)
WE-PPTI Push-Pull Transformer, SMT, size 1408, Ui = 5V, Uo = 5V / 0.95A; Manufacturer: Wurth Elektronik; Case/Size Code: 1408; Inductance: 200uH; Input Voltage: 5VDC; Insulation Test Voltage: 2500V (AC); Switching Frequency: 200 - 400kHz; Turns Ratio: 1:1.17; Type of Insulation: Supplementary; Voltage-Time: 15Vus; Manufacturer Part Number: 750316886; Category: Transformers For DC-DC Converter; Match Code: WE-PPTI; ComponentLink1Description: Website Link; ComponentLink1URL: https://www.we-online.com/redexpert/article/750316886?ad; ComponentLink2Description: Datasheet Link; ComponentLink2URL: https://www.we-online.com/redexpert/spec/750316886?ad; Mount: Surface Mount; Operating Temperature Max: 125°C; Operating Temperature Min: -40°C; Packaging: Tape and Reel; Length: 14.75mm; Width: 8.3mm; Height: 4.2mm; Output Current 1: 0.95A; Output Voltage 1: 5V
footprint WE-PPTI_1408_L14.75W8.3H4.2
pins: 1, 2, 3, 4, 5, 6
text: N1; N3; N2; N4

## 750316887
designator T?  (value not drawn)
WE-PPTI Push-Pull Transformer, SMT, size 1408, Ui = 3.3V, Uo = 5V / 0.7A; Manufacturer: Wurth Elektronik; Case/Size Code: 1408; Inductance: 200uH; Input Voltage: 3.3VDC; Insulation Test Voltage: 2500V (AC); Switching Frequency: 200 - 600kHz; Turns Ratio: 1:1.67; Type of Insulation: Supplementary; Voltage-Time: 15Vus; Manufacturer Part Number: 750316887; Category: Transformers For DC-DC Converter; Match Code: WE-PPTI; ComponentLink1Description: Website Link; ComponentLink1URL: https://www.we-online.com/redexpert/article/750316887?ad; ComponentLink2Description: Datasheet Link; ComponentLink2URL: https://www.we-online.com/redexpert/spec/750316887?ad; Mount: Surface Mount; Operating Temperature Max: 125°C; Operating Temperature Min: -40°C; Packaging: Tape and Reel; Length: 14.75mm; Width: 8.3mm; Height: 4.2mm; Output Current 1: 0.7A; Output Voltage 1: 5V
footprint WE-PPTI_1408_L14.75W8.3H4.2
pins: 1, 2, 3, 4, 5, 6
text: N1; N3; N2; N4

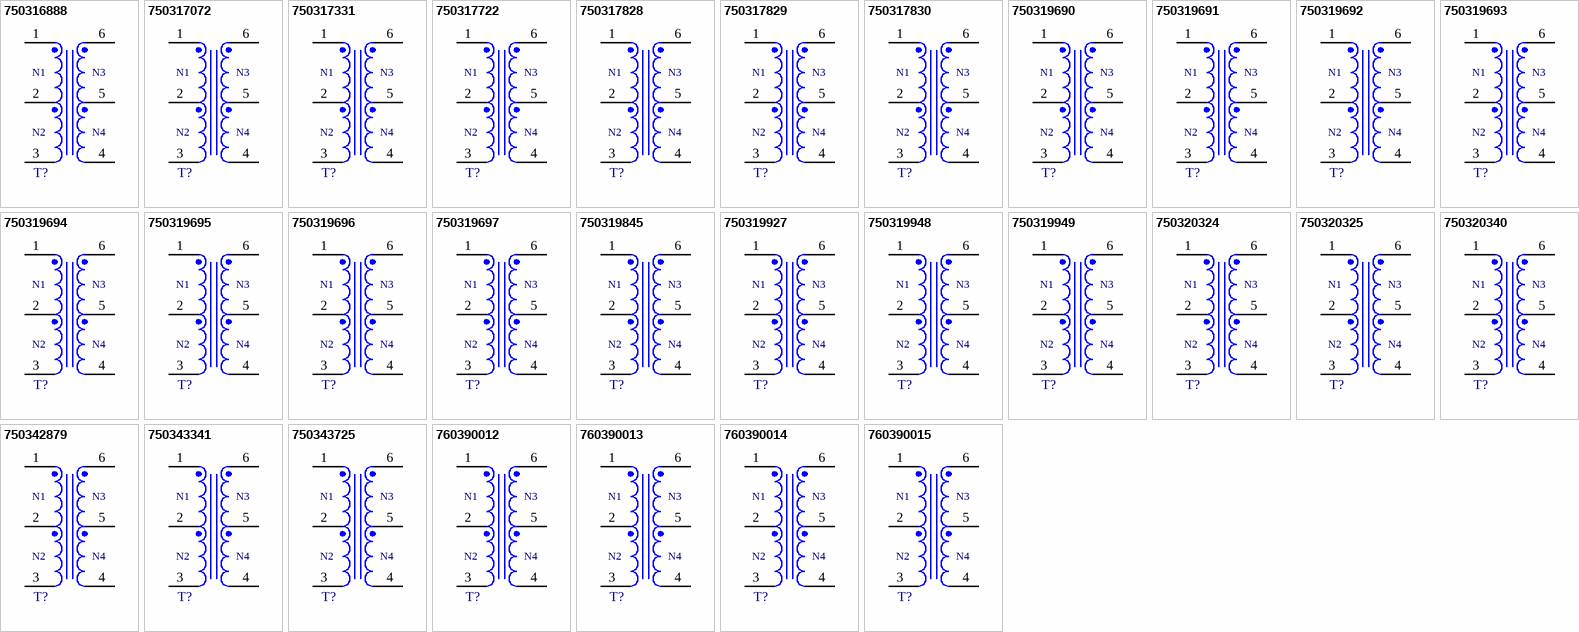
[diagram p1: symbols 750316888 to 760390015]

## 750316888
designator T?  (value not drawn)
WE-PPTI Push-Pull Transformer, SMT, size 1408, Ui = 5V, Uo = 3.3V / 1.1A; Manufacturer: Wurth Elektronik; Case/Size Code: 1408; Inductance: 200uH; Input Voltage: 5VDC; Insulation Test Voltage: 2500V (AC); Switching Frequency: 200 - 600kHz; Turns Ratio: 1.2:1; Type of Insulation: Supplementary; Voltage-Time: 15Vus; Manufacturer Part Number: 750316888; Category: Transformers For DC-DC Converter; Match Code: WE-PPTI; ComponentLink1Description: Website Link; ComponentLink1URL: https://www.we-online.com/redexpert/article/750316888?ad; ComponentLink2Description: Datasheet Link; ComponentLink2URL: https://www.we-online.com/redexpert/spec/750316888?ad; Mount: Surface Mount; Operating Temperature Max: 125°C; Operating Temperature Min: -40°C; Packaging: Tape and Reel; Length: 14.75mm; Width: 8.3mm; Height: 4.2mm; Output Current 1: 1.1A; Output Voltage 1: 3.3V
footprint WE-PPTI_1408_L14.75W8.3H4.2
pins: 1, 2, 3, 4, 5, 6
text: N1; N3; N2; N4

## 750317072
designator T?  (value not drawn)
WE-PPTI Push-Pull Transformer, SMT, size 1408, Ui = 3.3V, Uo = 20V / 0.125A; Manufacturer: Wurth Elektronik; Case/Size Code: 1408; Inductance: 200uH; Input Voltage: 3.3VDC; Insulation Test Voltage: 2500V (AC); Switching Frequency: 200 - 600kHz; Turns Ratio: 1:6.17; Type of Insulation: Supplementary; Voltage-Time: 15Vus; Manufacturer Part Number: 750317072; Category: Transformers For DC-DC Converter; Match Code: WE-PPTI; ComponentLink1Description: Website Link; ComponentLink1URL: https://www.we-online.com/redexpert/article/750317072?ad; ComponentLink2Description: Datasheet Link; ComponentLink2URL: https://www.we-online.com/redexpert/spec/750317072?ad; Mount: Surface Mount; Operating Temperature Max: 125°C; Operating Temperature Min: -40°C; Packaging: Tape and Reel; Length: 14.75mm; Width: 8.3mm; Height: 4.2mm; Output Current 1: 0.125A; Output Voltage 1: 20V
footprint WE-PPTI_1408_L14.75W8.3H4.2
pins: 1, 2, 3, 4, 5, 6
text: N1; N3; N2; N4

## 750317331
designator T?  (value not drawn)
WE-PPTI Push-Pull Transformer, SMT, size 1006, Ui = 24V, Uo = 12V / 0.5A; Manufacturer: Wurth Elektronik; Case/Size Code: 1006; Inductance: 4000uH; Input Voltage: 24VDC; Insulation Test Voltage: 2500V (AC); Switching Frequency: 350 - 620kHz; Turns Ratio: 1.94:1; Type of Insulation: Functional; Voltage-Time: 41Vus; Manufacturer Part Number: 750317331; Category: Transformers For DC-DC Converter; Match Code: WE-PPTI; ComponentLink1Description: Website Link; ComponentLink1URL: https://www.we-online.com/redexpert/article/750317331?ad; ComponentLink2Description: Datasheet Link; ComponentLink2URL: https://www.we-online.com/redexpert/spec/750317331?ad; Mount: Surface Mount; Operating Temperature Max: 125°C; Operating Temperature Min: -40°C; Packaging: Tape and Reel; Length: 10.2mm; Width: 6.73mm; Height: 4.67mm; Output Current 1: 0.5A; Output Voltage 1: 12V
footprint WE-PPTI_1006_L10.2W6.73H4.67
pins: 1, 2, 3, 4, 5, 6
text: N1; N3; N2; N4

## 750317722
designator T?  (value not drawn)
WE-PPTI Push-Pull Transformer, SMT, size 1006, Ui = 5V, Uo = 19V / 0.225A; Manufacturer: Wurth Elektronik; Case/Size Code: 1006; Inductance: 320uH; Input Voltage: 5VDC; Insulation Test Voltage: 2500V (AC); Switching Frequency: 400kHz; Turns Ratio: 1:3.91; Voltage-Time: 10Vus; Manufacturer Part Number: 750317722; Category: Transformers For DC-DC Converter; Match Code: WE-PPTI; ComponentLink1Description: Website Link; ComponentLink1URL: https://www.we-online.com/redexpert/article/750317722?ad; ComponentLink2Description: Datasheet Link; ComponentLink2URL: https://www.we-online.com/redexpert/spec/750317722?ad; Mount: Surface Mount; Operating Temperature Max: 125°C; Operating Temperature Min: -40°C; Packaging: Tape and Reel; Length: 10.46mm; Width: 6.73mm; Height: 4.19mm; Output Current 1: 0.225A; Output Voltage 1: 19V
footprint WE-PPTI_1006_L10.46W6.73H4.19
pins: 1, 2, 3, 4, 5, 6
text: N1; N3; N2; N4

## 750317828
designator T?  (value not drawn)
WE-PPTI Push-Pull Transformer, SMT, size 1006, Ui = 24V, Uo = 5V / 0.8A; Manufacturer: Wurth Elektronik; Case/Size Code: 1006; Inductance: 4000uH; Input Voltage: 24VDC; Insulation Test Voltage: 2500V (AC); Switching Frequency: 350 - 620kHz; Turns Ratio: 4.43:1; Type of Insulation: Functional; Voltage-Time: 41Vus; Manufacturer Part Number: 750317828; Category: Transformers For DC-DC Converter; Match Code: WE-PPTI; ComponentLink1Description: Website Link; ComponentLink1URL: https://www.we-online.com/redexpert/article/750317828?ad; ComponentLink2Description: Datasheet Link; ComponentLink2URL: https://www.we-online.com/redexpert/spec/750317828?ad; Mount: Surface Mount; Operating Temperature Max: 125°C; Operating Temperature Min: -40°C; Packaging: Tape and Reel; Length: 10.2mm; Width: 6.73mm; Height: 4.67mm; Output Current 1: 0.8A; Output Voltage 1: 5V
footprint WE-PPTI_1006_L10.2W6.73H4.67
pins: 1, 2, 3, 4, 5, 6
text: N1; N3; N2; N4

## 750317829
designator T?  (value not drawn)
WE-PPTI Push-Pull Transformer, SMT, size 1006, Ui = 12V, Uo = 12V / 0.3A; Manufacturer: Wurth Elektronik; Case/Size Code: 1006; Inductance: 1920uH; Input Voltage: 12VDC; Insulation Test Voltage: 2500V (AC); Switching Frequency: 300 - 620kHz; Turns Ratio: 1:1.05; Type of Insulation: Functional; Voltage-Time: 24Vus; Manufacturer Part Number: 750317829; Category: Transformers For DC-DC Converter; Match Code: WE-PPTI; ComponentLink1Description: Website Link; ComponentLink1URL: https://www.we-online.com/redexpert/article/750317829?ad; ComponentLink2Description: Datasheet Link; ComponentLink2URL: https://www.we-online.com/redexpert/spec/750317829?ad; Mount: Surface Mount; Operating Temperature Max: 125°C; Operating Temperature Min: -40°C; Packaging: Tape and Reel; Length: 10.2mm; Width: 6.73mm; Height: 4.67mm; Output Current 1: 0.3A; Output Voltage 1: 12V
footprint WE-PPTI_1006_L10.2W6.73H4.67
pins: 1, 2, 3, 4, 5, 6
text: N1; N3; N2; N4

## 750317830
designator T?  (value not drawn)
WE-PPTI Push-Pull Transformer, SMT, size 1006, Ui = 12V, Uo = 5V / 0.7A; Manufacturer: Wurth Elektronik; Case/Size Code: 1006; Inductance: 1920uH; Input Voltage: 12VDC; Insulation Test Voltage: 2500V (AC); Switching Frequency: 300 - 620kHz; Turns Ratio: 2.2:1; Type of Insulation: Functional; Voltage-Time: 24Vus; Manufacturer Part Number: 750317830; Category: Transformers For DC-DC Converter; Match Code: WE-PPTI; ComponentLink1Description: Website Link; ComponentLink1URL: https://www.we-online.com/redexpert/article/750317830?ad; ComponentLink2Description: Datasheet Link; ComponentLink2URL: https://www.we-online.com/redexpert/spec/750317830?ad; Mount: Surface Mount; Operating Temperature Max: 125°C; Operating Temperature Min: -40°C; Packaging: Tape and Reel; Length: 10.2mm; Width: 6.73mm; Height: 4.67mm; Output Current 1: 0.7A; Output Voltage 1: 5V
footprint WE-PPTI_1006_L10.2W6.73H4.67
pins: 1, 2, 3, 4, 5, 6
text: N1; N3; N2; N4

## 750319690
designator T?  (value not drawn)
WE-PPTI Push-Pull Transformer, SMT, size 1308, Ui = 12V, Uo = 5V / 0.7A; Manufacturer: Wurth Elektronik; Case/Size Code: 1308; Inductance: 100uH; Input Voltage: 12VDC; Insulation Test Voltage: 2500V (AC); Switching Frequency: 400-600kHz; Turns Ratio: 1.75:1; Voltage-Time: 23Vus; Manufacturer Part Number: 750319690; Category: Transformers For DC-DC Converter; Match Code: WE-PPTI; ComponentLink1Description: Website Link; ComponentLink1URL: https://www.we-online.com/redexpert/article/750319690?ad; ComponentLink2Description: Datasheet Link; ComponentLink2URL: https://www.we-online.com/redexpert/spec/750319690?ad; Mount: Surface Mount; Operating Temperature Max: 125°C; Operating Temperature Min: -40°C; Packaging: Tape and Reel; Length: 13.12mm; Width: 8.5mm; Height: 5.5mm; Output Current 1: 0.7A; Output Voltage 1: 5V
footprint WE-PPTI_1308_L13.12W8.5H5.5
pins: 1, 2, 3, 4, 5, 6
text: N1; N3; N2; N4

## 750319691
designator T?  (value not drawn)
WE-PPTI Push-Pull Transformer, SMT, size 1308, Ui = 12V, Uo = 12V / 0.5A; Manufacturer: Wurth Elektronik; Case/Size Code: 1308; Inductance: 100uH; Input Voltage: 12VDC; Insulation Test Voltage: 2500V (AC); Switching Frequency: 400-600kHz; Turns Ratio: 1:1.14; Voltage-Time: 23Vus; Manufacturer Part Number: 750319691; Category: Transformers For DC-DC Converter; Match Code: WE-PPTI; ComponentLink1Description: Website Link; ComponentLink1URL: https://www.we-online.com/redexpert/article/750319691?ad; ComponentLink2Description: Datasheet Link; ComponentLink2URL: https://www.we-online.com/redexpert/spec/750319691?ad; Mount: Surface Mount; Operating Temperature Max: 125°C; Operating Temperature Min: -40°C; Packaging: Tape and Reel; Length: 13.12mm; Width: 8.5mm; Height: 5.5mm; Output Current 1: 0.5A; Output Voltage 1: 12V
footprint WE-PPTI_1308_L13.12W8.5H5.5
pins: 1, 2, 3, 4, 5, 6
text: N1; N3; N2; N4

## 750319692
designator T?  (value not drawn)
WE-PPTI Push-Pull Transformer, SMT, size 1308, Ui = 12V, Uo = 15V / 0.4A; Manufacturer: Wurth Elektronik; Case/Size Code: 1308; Inductance: 100uH; Input Voltage: 12VDC; Insulation Test Voltage: 2500V (AC); Switching Frequency: 400-600kHz; Turns Ratio: 1:1.33; Voltage-Time: 19.8Vus; Manufacturer Part Number: 750319692; Category: Transformers For DC-DC Converter; Match Code: WE-PPTI; ComponentLink1Description: Website Link; ComponentLink1URL: https://www.we-online.com/redexpert/article/750319692?ad; ComponentLink2Description: Datasheet Link; ComponentLink2URL: https://www.we-online.com/redexpert/spec/750319692?ad; Mount: Surface Mount; Operating Temperature Max: 125°C; Operating Temperature Min: -40°C; Packaging: Tape and Reel; Length: 13.12mm; Width: 8.5mm; Height: 5.5mm; Output Current 1: 0.4A; Output Voltage 1: 15V
footprint WE-PPTI_1308_L13.12W8.5H5.5
pins: 1, 2, 3, 4, 5, 6
text: N1; N3; N2; N4

## 750319693
designator T?  (value not drawn)
WE-PPTI Push-Pull Transformer, SMT, size 1308, Ui = 12V, Uo = 24V / 0.4A; Manufacturer: Wurth Elektronik; Case/Size Code: 1308; Inductance: 100uH; Input Voltage: 12VDC; Insulation Test Voltage: 2500V (AC); Switching Frequency: 400-600kHz; Turns Ratio: 1:2.29; Voltage-Time: 23Vus; Manufacturer Part Number: 750319693; Category: Transformers For DC-DC Converter; Match Code: WE-PPTI; ComponentLink1Description: Website Link; ComponentLink1URL: https://www.we-online.com/redexpert/article/750319693?ad; ComponentLink2Description: Datasheet Link; ComponentLink2URL: https://www.we-online.com/redexpert/spec/750319693?ad; Mount: Surface Mount; Operating Temperature Max: 125°C; Operating Temperature Min: -40°C; Packaging: Tape and Reel; Length: 13.12mm; Width: 8.5mm; Height: 5.5mm; Output Current 1: 0.4A; Output Voltage 1: 24V
footprint WE-PPTI_1308_L13.12W8.5H5.5
pins: 1, 2, 3, 4, 5, 6
text: N1; N3; N2; N4